# EAGLE library part HI3-0509A-5Z (library Intersil_By_element14_Batch_1)
CMOS Analog MUXs
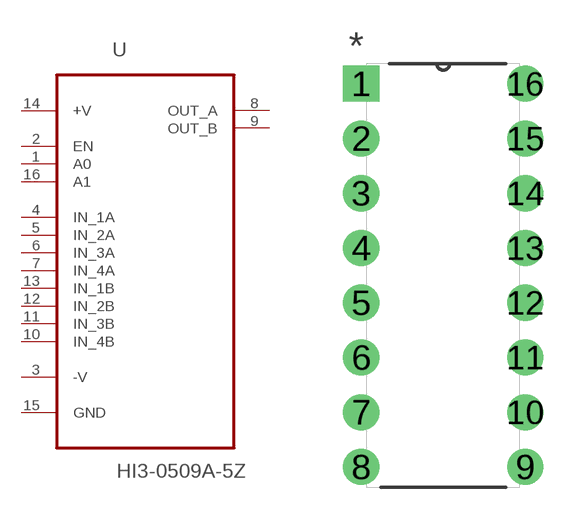
[diagram p127: symbol with the pads of DIP254P762X533-16; footprint DIP254P762X533-16]

Designator prefix U

## HI3-0509A-5Z (MPN: HI3-0509A-5Z; OC_FARNELL: 1562047; OC_NEWARK: 61J6014; PACKAGE: PDIP-16; SUPPLIER: INTERSIL)  [DIP254P762X533-16]
1  A0  in
2  EN  in
3  -V  pwr
4  IN_1A  in
5  IN_2A  in
6  IN_3A  in
7  IN_4A  in
8  OUT_A  out
9  OUT_B  out
10  IN_4B  in
11  IN_3B  in
12  IN_2B  in
13  IN_1B  in
14  +V  pwr
15  GND  pas
16  A1  in

## Footprint DIP254P762X533-16 (pad centres in mm)
drill 1.118 square: 1 -7.62,17.78
drill 1.118: 2 -7.62,15.24; 3 -7.62,12.7; 4 -7.62,10.16; 5 -7.62,7.62; 6 -7.62,5.08; 7 -7.62,2.54; 8 -7.62,0; 9 0,0; 10 0,2.54; 11 0,5.08; 12 0,7.62; 13 0,10.16; 14 0,12.7; 15 0,15.24; 16 0,17.78